# EAGLE library part SIL08MXXX* (library te-fixed-resistors)
General Purpose Resistor Networks - 4 Insolated Terminals Description Fully automated production techniques, ensure this extensive range offers you consistently high standards of performance and reliability. TE Connectivity (TE) can meet all your demands with its range of 4 to 13 resistor elements in common format and 3 to 7 resistor elements in isolated types. The substrate and lead frame provide exceptional strength and the resistors are protected from humidity and thermal shock by a hardwearing, solvent proof black coating. TE Connectivity (TE) will also manufacture custom design networks for your special requirements. Please contact our Sales Action Desk for details. Key Features 2% & 5% Tolerances Low Price Keeps Production Costs Down Solvent Proof Coating Very Wide Range Low Profile (5.08mm Max.) Very Strong Construction High Insulation Resistance How to order Common Part No. of pins Circuit config Resistance Value Tolerance SIL 08 - 8 Pins M - Isolated Terminals The first two digits are significant fig- ures of resistance value and the third denotes the number of zeros following. e.g. 220R: 221 4K7: 472 51K: 513 470K: 474 J - 5% G - 2% Ref: Datasheet <http://www.te.com/commerce/DocumentDelivery/DDEController?Action=showdoc&DocId=Data+Sheet%7F1773204%7FH%7Fpdf%7FEnglish%7FENG_DS_1773204_H.pdf%7F1623095-1>
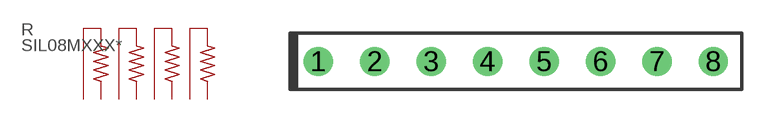
[diagram p1: symbol with the pads of TE_SIP254P2032X250X508-8N; footprint TE_SIP254P2032X250X508-8N]

Designator prefix R

## SIL08MXXXG, SIL08MXXXJ  [TE_SIP254P2032X250X508-8N]
1  R11  pas
2  R12  pas
3  R21  pas
4  R22  pas
5  R31  pas
6  R32  pas
7  R41  pas
8  R42  pas

## Footprint TE_SIP254P2032X250X508-8N (pad centres in mm)
Single Inline Package (SIP8) 20.32mm L × 2.5mm W x 5.08mm H --------------------------------------------------
drill 0.8: 1 -8.89,0; 2 -6.35,0; 3 -3.81,0; 4 -1.27,0; 5 1.27,0; 6 3.81,0; 7 6.35,0; 8 8.89,0